# Altium schematic symbol library SAMTEC_TFM.SCHLIB: 1 symbol
Pins are listed as number, name and electrical type; pins without a type are passive.

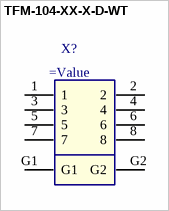
[diagram p0: symbol TFM-104-XX-X-D-WT]

## TFM-104-XX-X-D-WT
designator X?
1.27mm Terminal Strip
pins: 1, 2, 3, 4, 5, 6, 7, 8, G1, G2